# Altium schematic symbol library SCH - MCU - RENESAS - RENESAS R7FS5D97XXXXXXFP 100LQFP.SchLib: 1 symbol
Pins are listed as number, name and electrical type; pins without a type are passive.

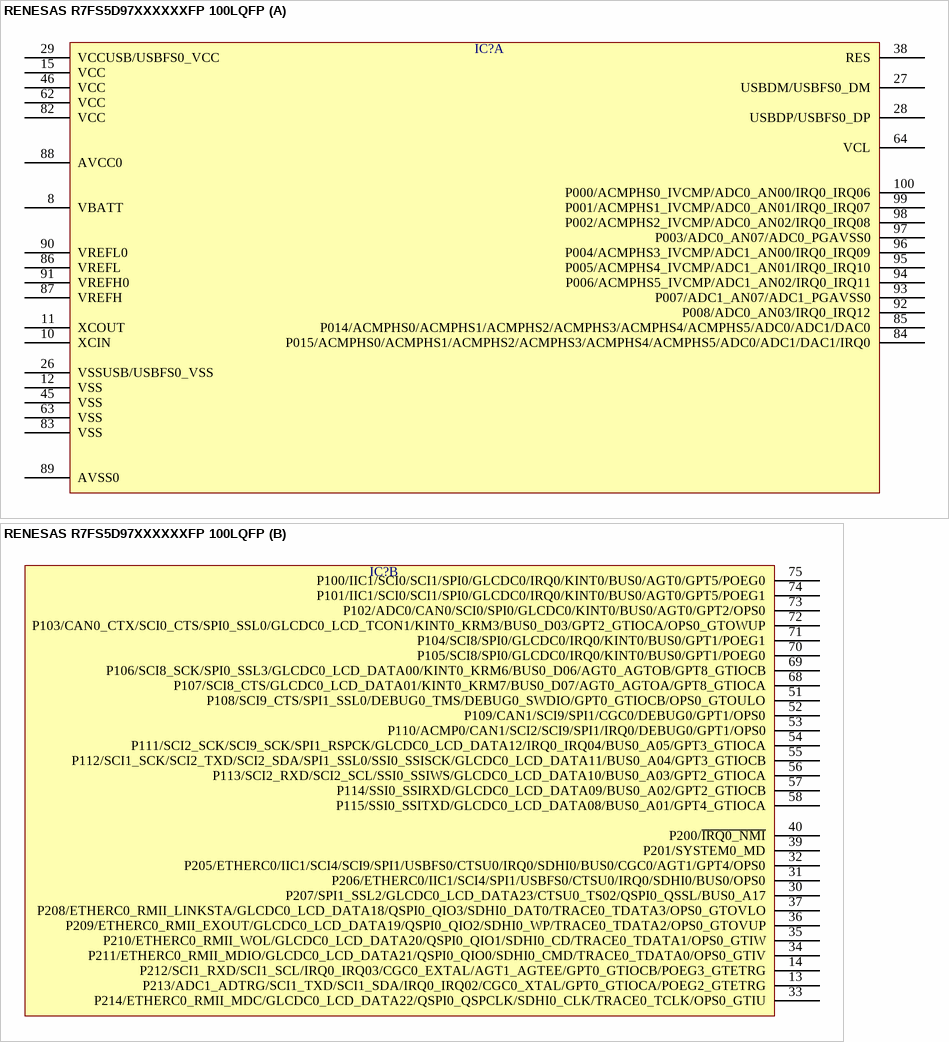
[diagram p0: symbol RENESAS R7FS5D97XXXXXXFP 100LQFP]

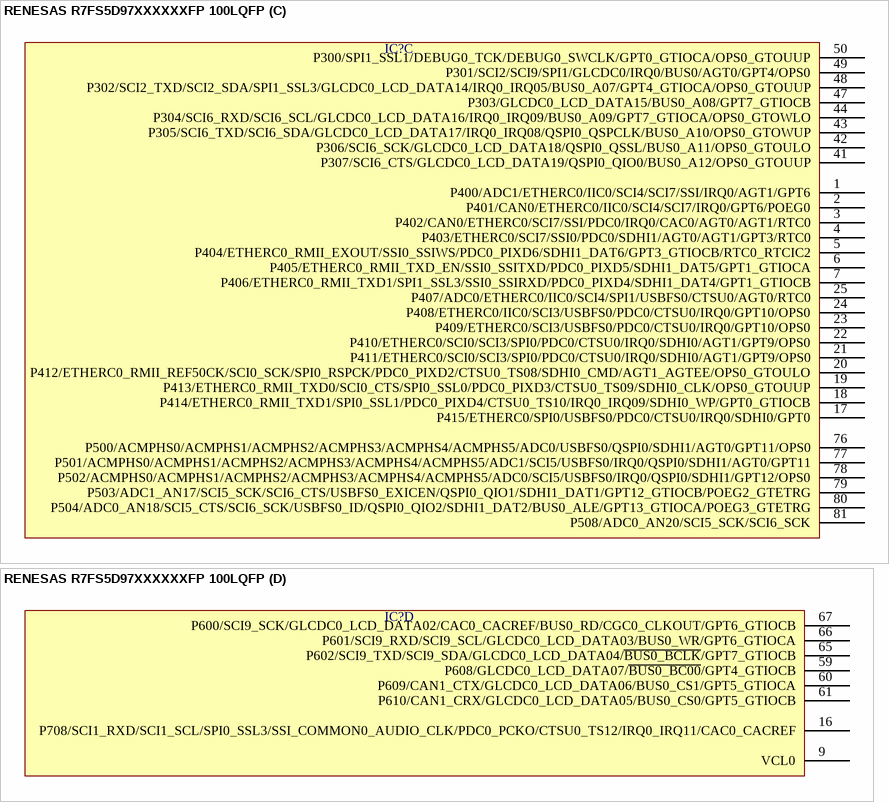
[diagram p1: symbol RENESAS R7FS5D97XXXXXXFP 100LQFP]

## RENESAS R7FS5D97XXXXXXFP 100LQFP
designator IC?  (value not drawn)
part A pins: 8 VBATT, 10 XCIN, 11 XCOUT, 12 VSS, 15 VCC, 26 VSSUSB/USBFS0_VSS, 27 USBDM/USBFS0_DM, 28 USBDP/USBFS0_DP, 29 VCCUSB/USBFS0_VCC, 38 RES, 45 VSS, 46 VCC, 62 VCC, 63 VSS, 64 VCL, 82 VCC, 83 VSS, 84 P015/ACMPHS0/ACMPHS1/ACMPHS2/ACMPHS3/ACMPHS4/ACMPHS5/ADC0/ADC1/DAC1/IRQ0, 85 P014/ACMPHS0/ACMPHS1/ACMPHS2/ACMPHS3/ACMPHS4/ACMPHS5/ADC0/ADC1/DAC0, 86 VREFL, 87 VREFH, 88 AVCC0, 89 AVSS0, 90 VREFL0, 91 VREFH0, 92 P008/ADC0_AN03/IRQ0_IRQ12, 93 P007/ADC1_AN07/ADC1_PGAVSS0, 94 P006/ACMPHS5_IVCMP/ADC1_AN02/IRQ0_IRQ11, 95 P005/ACMPHS4_IVCMP/ADC1_AN01/IRQ0_IRQ10, 96 P004/ACMPHS3_IVCMP/ADC1_AN00/IRQ0_IRQ09, 97 P003/ADC0_AN07/ADC0_PGAVSS0, 98 P002/ACMPHS2_IVCMP/ADC0_AN02/IRQ0_IRQ08, 99 P001/ACMPHS1_IVCMP/ADC0_AN01/IRQ0_IRQ07, 100 P000/ACMPHS0_IVCMP/ADC0_AN00/IRQ0_IRQ06
part B pins: 13 P213/ADC1_ADTRG/SCI1_TXD/SCI1_SDA/IRQ0_IRQ02/CGC0_XTAL/GPT0_GTIOCA/POEG2_GTETRG, 14 P212/SCI1_RXD/SCI1_SCL/IRQ0_IRQ03/CGC0_EXTAL/AGT1_AGTEE/GPT0_GTIOCB/POEG3_GTETRG, 30 P207/SPI1_SSL2/GLCDC0_LCD_DATA23/CTSU0_TS02/QSPI0_QSSL/BUS0_A17, 31 P206/ETHERC0/IIC1/SCI4/SPI1/USBFS0/CTSU0/IRQ0/SDHI0/BUS0/OPS0, 32 P205/ETHERC0/IIC1/SCI4/SCI9/SPI1/USBFS0/CTSU0/IRQ0/SDHI0/BUS0/CGC0/AGT1/GPT4/OPS0, 33 P214/ETHERC0_RMII_MDC/GLCDC0_LCD_DATA22/QSPI0_QSPCLK/SDHI0_CLK/TRACE0_TCLK/OPS0_GTIU, 34 P211/ETHERC0_RMII_MDIO/GLCDC0_LCD_DATA21/QSPI0_QIO0/SDHI0_CMD/TRACE0_TDATA0/OPS0_GTIV, 35 P210/ETHERC0_RMII_WOL/GLCDC0_LCD_DATA20/QSPI0_QIO1/SDHI0_CD/TRACE0_TDATA1/OPS0_GTIW, 36 P209/ETHERC0_RMII_EXOUT/GLCDC0_LCD_DATA19/QSPI0_QIO2/SDHI0_WP/TRACE0_TDATA2/OPS0_GTOVUP, 37 P208/ETHERC0_RMII_LINKSTA/GLCDC0_LCD_DATA18/QSPI0_QIO3/SDHI0_DAT0/TRACE0_TDATA3/OPS0_GTOVLO, 39 P201/SYSTEM0_MD, 40 P200/~{IRQ0_NMI}, 51 P108/SCI9_CTS/SPI1_SSL0/DEBUG0_TMS/DEBUG0_SWDIO/GPT0_GTIOCB/OPS0_GTOULO, 52 P109/CAN1/SCI9/SPI1/CGC0/DEBUG0/GPT1/OPS0, 53 P110/ACMP0/CAN1/SCI2/SCI9/SPI1/IRQ0/DEBUG0/GPT1/OPS0, 54 P111/SCI2_SCK/SCI9_SCK/SPI1_RSPCK/GLCDC0_LCD_DATA12/IRQ0_IRQ04/BUS0_A05/GPT3_GTIOCA, 55 P112/SCI1_SCK/SCI2_TXD/SCI2_SDA/SPI1_SSL0/SSI0_SSISCK/GLCDC0_LCD_DATA11/BUS0_A04/GPT3_GTIOCB, 56 P113/SCI2_RXD/SCI2_SCL/SSI0_SSIWS/GLCDC0_LCD_DATA10/BUS0_A03/GPT2_GTIOCA, 57 P114/SSI0_SSIRXD/GLCDC0_LCD_DATA09/BUS0_A02/GPT2_GTIOCB, 58 P115/SSI0_SSITXD/GLCDC0_LCD_DATA08/BUS0_A01/GPT4_GTIOCA, 68 P107/SCI8_CTS/GLCDC0_LCD_DATA01/KINT0_KRM7/BUS0_D07/AGT0_AGTOA/GPT8_GTIOCA, 69 P106/SCI8_SCK/SPI0_SSL3/GLCDC0_LCD_DATA00/KINT0_KRM6/BUS0_D06/AGT0_AGTOB/GPT8_GTIOCB, 70 P105/SCI8/SPI0/GLCDC0/IRQ0/KINT0/BUS0/GPT1/POEG0, 71 P104/SCI8/SPI0/GLCDC0/IRQ0/KINT0/BUS0/GPT1/POEG1, 72 P103/CAN0_CTX/SCI0_CTS/SPI0_SSL0/GLCDC0_LCD_TCON1/KINT0_KRM3/BUS0_D03/GPT2_GTIOCA/OPS0_GTOWUP, 73 P102/ADC0/CAN0/SCI0/SPI0/GLCDC0/KINT0/BUS0/AGT0/GPT2/OPS0, 74 P101/IIC1/SCI0/SCI1/SPI0/GLCDC0/IRQ0/KINT0/BUS0/AGT0/GPT5/POEG1, 75 P100/IIC1/SCI0/SCI1/SPI0/GLCDC0/IRQ0/KINT0/BUS0/AGT0/GPT5/POEG0
part C pins: 1 P400/ADC1/ETHERC0/IIC0/SCI4/SCI7/SSI/IRQ0/AGT1/GPT6, 2 P401/CAN0/ETHERC0/IIC0/SCI4/SCI7/IRQ0/GPT6/POEG0, 3 P402/CAN0/ETHERC0/SCI7/SSI/PDC0/IRQ0/CAC0/AGT0/AGT1/RTC0, 4 P403/ETHERC0/SCI7/SSI0/PDC0/SDHI1/AGT0/AGT1/GPT3/RTC0, 5 P404/ETHERC0_RMII_EXOUT/SSI0_SSIWS/PDC0_PIXD6/SDHI1_DAT6/GPT3_GTIOCB/RTC0_RTCIC2, 6 P405/ETHERC0_RMII_TXD_EN/SSI0_SSITXD/PDC0_PIXD5/SDHI1_DAT5/GPT1_GTIOCA, 7 P406/ETHERC0_RMII_TXD1/SPI1_SSL3/SSI0_SSIRXD/PDC0_PIXD4/SDHI1_DAT4/GPT1_GTIOCB, 17 P415/ETHERC0/SPI0/USBFS0/PDC0/CTSU0/IRQ0/SDHI0/GPT0, 18 P414/ETHERC0_RMII_TXD1/SPI0_SSL1/PDC0_PIXD4/CTSU0_TS10/IRQ0_IRQ09/SDHI0_WP/GPT0_GTIOCB, 19 P413/ETHERC0_RMII_TXD0/SCI0_CTS/SPI0_SSL0/PDC0_PIXD3/CTSU0_TS09/SDHI0_CLK/OPS0_GTOUUP, 20 P412/ETHERC0_RMII_REF50CK/SCI0_SCK/SPI0_RSPCK/PDC0_PIXD2/CTSU0_TS08/SDHI0_CMD/AGT1_AGTEE/OPS0_GTOULO, 21 P411/ETHERC0/SCI0/SCI3/SPI0/PDC0/CTSU0/IRQ0/SDHI0/AGT1/GPT9/OPS0, 22 P410/ETHERC0/SCI0/SCI3/SPI0/PDC0/CTSU0/IRQ0/SDHI0/AGT1/GPT9/OPS0, 23 P409/ETHERC0/SCI3/USBFS0/PDC0/CTSU0/IRQ0/GPT10/OPS0, 24 P408/ETHERC0/IIC0/SCI3/USBFS0/PDC0/CTSU0/IRQ0/GPT10/OPS0, 25 P407/ADC0/ETHERC0/IIC0/SCI4/SPI1/USBFS0/CTSU0/AGT0/RTC0, 41 P307/SCI6_CTS/GLCDC0_LCD_DATA19/QSPI0_QIO0/BUS0_A12/OPS0_GTOUUP, 42 P306/SCI6_SCK/GLCDC0_LCD_DATA18/QSPI0_QSSL/BUS0_A11/OPS0_GTOULO, 43 P305/SCI6_TXD/SCI6_SDA/GLCDC0_LCD_DATA17/IRQ0_IRQ08/QSPI0_QSPCLK/BUS0_A10/OPS0_GTOWUP, 44 P304/SCI6_RXD/SCI6_SCL/GLCDC0_LCD_DATA16/IRQ0_IRQ09/BUS0_A09/GPT7_GTIOCA/OPS0_GTOWLO, 47 P303/GLCDC0_LCD_DATA15/BUS0_A08/GPT7_GTIOCB, 48 P302/SCI2_TXD/SCI2_SDA/SPI1_SSL3/GLCDC0_LCD_DATA14/IRQ0_IRQ05/BUS0_A07/GPT4_GTIOCA/OPS0_GTOUUP, 49 P301/SCI2/SCI9/SPI1/GLCDC0/IRQ0/BUS0/AGT0/GPT4/OPS0, 50 P300/SPI1_SSL1/DEBUG0_TCK/DEBUG0_SWCLK/GPT0_GTIOCA/OPS0_GTOUUP, 76 P500/ACMPHS0/ACMPHS1/ACMPHS2/ACMPHS3/ACMPHS4/ACMPHS5/ADC0/USBFS0/QSPI0/SDHI1/AGT0/GPT11/OPS0, 77 P501/ACMPHS0/ACMPHS1/ACMPHS2/ACMPHS3/ACMPHS4/ACMPHS5/ADC1/SCI5/USBFS0/IRQ0/QSPI0/SDHI1/AGT0/GPT11, 78 P502/ACMPHS0/ACMPHS1/ACMPHS2/ACMPHS3/ACMPHS4/ACMPHS5/ADC0/SCI5/USBFS0/IRQ0/QSPI0/SDHI1/GPT12/OPS0, 79 P503/ADC1_AN17/SCI5_SCK/SCI6_CTS/USBFS0_EXICEN/QSPI0_QIO1/SDHI1_DAT1/GPT12_GTIOCB/POEG2_GTETRG, 80 P504/ADC0_AN18/SCI5_CTS/SCI6_SCK/USBFS0_ID/QSPI0_QIO2/SDHI1_DAT2/BUS0_ALE/GPT13_GTIOCA/POEG3_GTETRG, 81 P508/ADC0_AN20/SCI5_SCK/SCI6_SCK
part D pins: 9 VCL0, 16 P708/SCI1_RXD/SCI1_SCL/SPI0_SSL3/SSI_COMMON0_AUDIO_CLK/PDC0_PCKO/CTSU0_TS12/IRQ0_IRQ11/CAC0_CACREF, 59 P608/GLCDC0_LCD_DATA07/~{BUS0_BC00}/GPT4_GTIOCB, 60 P609/CAN1_CTX/GLCDC0_LCD_DATA06/BUS0_CS1/GPT5_GTIOCA, 61 P610/CAN1_CRX/GLCDC0_LCD_DATA05/BUS0_CS0/GPT5_GTIOCB, 65 P602/SCI9_TXD/SCI9_SDA/GLCDC0_LCD_DATA04/~{BUS0_BCLK}/GPT7_GTIOCB, 66 P601/SCI9_RXD/SCI9_SCL/GLCDC0_LCD_DATA03/BUS0_WR/GPT6_GTIOCA, 67 P600/SCI9_SCK/GLCDC0_LCD_DATA02/CAC0_CACREF/BUS0_RD/CGC0_CLKOUT/GPT6_GTIOCB